# Altium footprint library SparkFun-Connectors.PCBLIB: 386 footprints (part 25 of 25)
Each footprint in its own frame and in the unit in brackets; x right, y up, seen from the top. Pads: shape width x height; smd on the part's side, far side on the other; paste and mask are expansions set on the pad; w line width, h text height; cw(c..) or ccw(c..) is an arc to the next point about the centre after c.
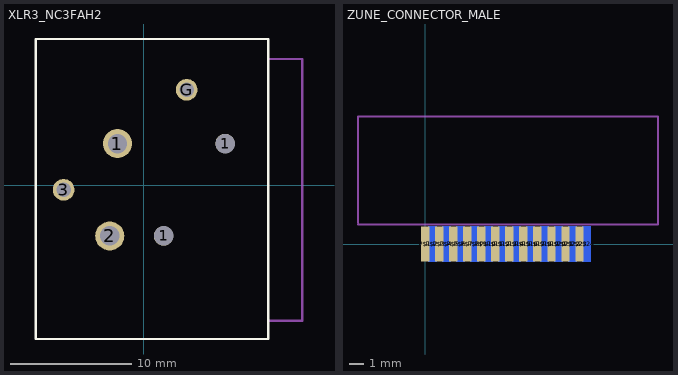
[diagram p24: the footprints below, top view; thin cyan lines are the x and y axes]

## XLR3_NC3FAH2 [mil]
pads (6):
  round 94.5 hole 63: 1(-85,135) 2(-110,-165)
  round 63 hole 63: 1(65,-165) 1(265,135)
  round 70.5 hole 47: 3(-260,-15) G(140,310)
Top Overlay:
  lines w8: -350,-500 405,-500 405,475 -350,475 -350,-500
Mechanical 16:
  lines w8: 410,-440 515,-440 515,-40 515,410 410,410

## ZUNE_CONNECTOR_MALE [mm]
pads (24):
  rect 0.6x2.5 smd: P$1(0,0) P$3(1,0) P$5(2,0) P$7(3,0) P$9(4,0) P$11(5,0) P$13(6,0) P$15(7,0) P$17(8,0) P$19(9,0) P$21(10,0) P$23(11,0)
  rect 0.6x2.5 smd far side: P$2(0.5,0) P$4(1.5,0) P$6(2.5,0) P$8(3.5,0) P$10(4.5,0) P$12(5.5,0) P$14(6.5,0) P$16(7.5,0) P$18(8.5,0) P$20(9.5,0) P$22(10.5,0) P$24(11.5,0)
Mechanical 16:
  lines w0.127: -4.8,1.4 16.6,1.4 16.6,9.1 -4.8,9.1 -4.8,1.5
  text "Connector should be used only with 1.2mm PCB thickness." at -0.9,1.8 h0.47